# Altium footprint library RES(4.7, 0.01, 2W, SMD-2512).PcbLib: 1 footprints
Each footprint in its own frame and in the unit in brackets; x right, y up, seen from the top. Pads: shape width x height; smd on the part's side, far side on the other; paste and mask are expansions set on the pad; w line width, h text height; cw(c..) or ccw(c..) is an arc to the next point about the centre after c.
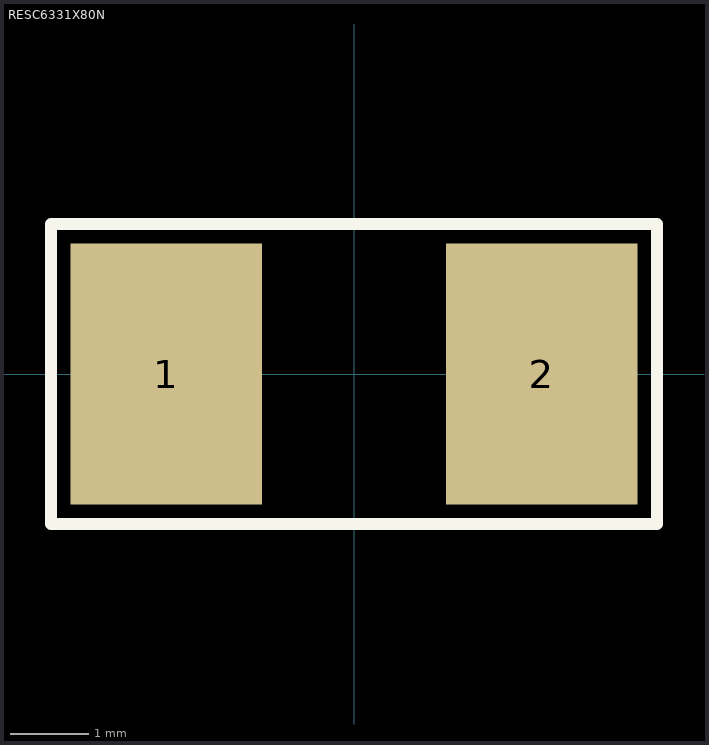
[diagram p0: the footprint, top view; thin cyan lines are the x and y axes]

## RESC6331X80N [mm]
pads (2):
  rect 2.44x3.32 smd: 1(-2.39,0) 2(2.39,0)
Top Overlay:
  lines w0.152: -3.858,-1.908 -3.858,1.908 3.858,1.908 3.858,-1.908 -3.858,-1.908
3D body "CRM2512-FX-4R70ELF.STEP": height 0.8, standoff 0, extent -3.15,-1.55 3.15,1.55